# Altium schematic symbol library INA226.Schlib: 2 symbols
Pins are listed as number, name and electrical type; pins without a type are passive.

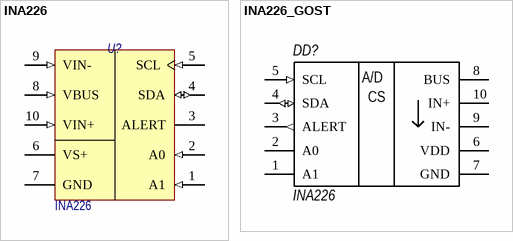
[diagram p0: symbols INA226 to INA226_GOST]

## INA226
designator U?
High- or Low-Side Measurement, Bidirectional Current and Power Monitor With I2C Interface; Назначение: High-Side or Low-Side Measurement,; Потребление, Вт: 0,001; ComponentLink1Description: Data sheet; ComponentLink1URL: http://www.ti.com/lit/ds/symlink/ina226.pdf; DataSheet: https://www.ti.com/lit/ds/symlink/ina226.pdf?ts=1592809211957&ref_url=https%253A%252F%252Fwww.google.com%252F; Наименование: INA226
footprint VSSOP-10 (Small Outline Package, 8-pin, 3x3mm, 1.1mm height)
pins: 1 A1 (in) "Address pin. Connect to GND, SCL, SDA, or VS.", 2 A0 (in) "Address pin. Connect to GND, SCL, SDA, or VS.", 3 ALERT (oc) "Multi-functional alert, open-drain output.", 4 SDA (io) "Serial bus data line, open-drain input/output.", 5 SCL (in) "Serial bus clock line, open-drain input.", 6 VS+ (power) "Power supply, 2.7V to 5.5V.", 7 GND (power) "Ground.", 8 VBUS (in) "Bus voltage input.", 9 VIN- (in) "Negative differential shunt voltage. Connect to negative side of shunt resistor.", 10 VIN+ (in) "Positive differential shunt voltage. Connect to positive side of shunt resistor."

## INA226_GOST
designator DD?, comment Наименование: INA226  (hidden comment: INA226AIDGS)
High- or Low-Side Measurement, Bidirectional Current and  Power Monitor With 1.8-V I2C Interface; Потребление, Вт: 0.01; Назначение: *; DataSheet: https://www.ti.com/lit/ds/symlink/ina226.pdf?ts=1592809211957&ref_url=https%253A%252F%252Fwww.google.com%252F
footprint VSSOP-10 (Small Outline Package, 10-pin, 3x3mm, 1.1mm height)
footprint VSSOP-10_v2
pins: 1 A1, 2 A0, 3 ALERT (out), 4 SDA (io), 5 SCL (in), 6 VDD, 7 GND, 8 BUS, 9 IN-, 10 IN+
text: A/D; CS